# EAGLE library part MD-UCC27211DDA (library amplib)
UCC27211DDA <https://www.ti.com/lit/ds/symlink/ucc27211.pdf> RS-artikelnummer 774-1379 <https://se.rs-online.com/web/p/mosfet-drivers/7741379/>
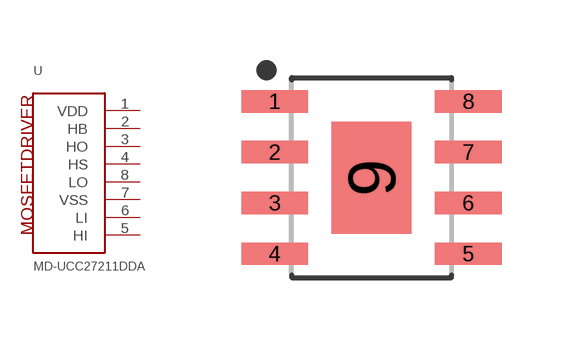
[diagram p0: symbol with the pads of SOIC127P600X170-9T200X280L; footprint SOIC127P600X170-9T200X280L]

Designator prefix -

## MD-UCC27211DDA  [SOIC127P600X170-9T200X280L]
1  VDD
2  HB
3  HO
4  HS
5  HI
6  LI
7  VSS
8  LO

## Footprint SOIC127P600X170-9T200X280L (pad centres in mm)
8-SOIC, 1.27 mm pitch, 6.00 mm span, 4.90 X 3.90 X 1.70 mm body, 2.80 X 2.00 mm thermal pad 8-pin SOIC package with 1.27 mm pitch, 6.00 mm span with body size 4.90 X 3.90 X 1.70 mm and thermal pad size 2.80 X 2.00 mm
smd 1.669 x 0.559: 1 -2.423,1.905; 2 -2.423,0.635; 3 -2.423,-0.635; 4 -2.423,-1.905; 5 2.423,-1.905; 6 2.423,-0.635; 7 2.423,0.635; 8 2.423,1.905
smd 2 x 2.8: 9 0,0